# Altium footprint library CDRH104R.PcbLib: 1 footprints
Each footprint in its own frame and in the unit in brackets; x right, y up, seen from the top. Pads: shape width x height; smd on the part's side, far side on the other; paste and mask are expansions set on the pad; w line width, h text height; cw(c..) or ccw(c..) is an arc to the next point about the centre after c.
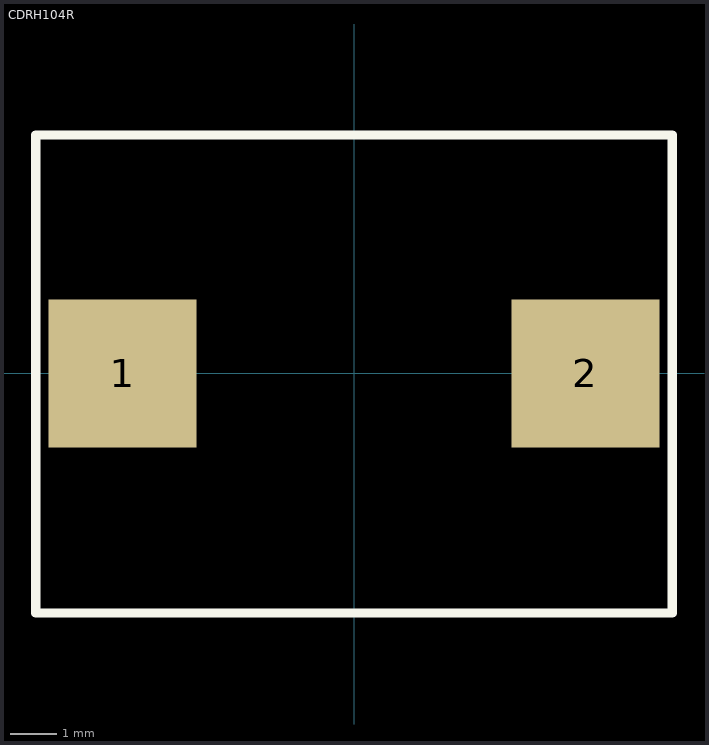
[diagram p0: the footprint, top view; thin cyan lines are the x and y axes]

## CDRH104R [mm]
height 0.95
pads (2):
  rect 3.2x3.2 smd: 1(-5,0) 2(5,0)
Top Layer:
  region: 0.925,0.5
Top Overlay:
  lines w0.2: -6.875,-5.175 6.875,-5.175 6.875,5.15 -6.875,5.15 -6.875,-5.175
Top Assembly:
  lines w0.1: -6.875,-5.175 -6.875,5.15 6.875,5.15 6.875,-5.175 -6.875,-5.175
  text "'.Designator'" at -0.675,-0.375 h0.8
3D body "User Library-cdrh104r.STEP": height 4, standoff 0, extent -5.25,-5.15 5.25,5.15